# Altium footprint library PcbLib1.PcbLib: 7 footprints
Each footprint in its own frame and in the unit in brackets; x right, y up, seen from the top. Pads: shape width x height; smd on the part's side, far side on the other; paste and mask are expansions set on the pad; w line width, h text height; cw(c..) or ccw(c..) is an arc to the next point about the centre after c.
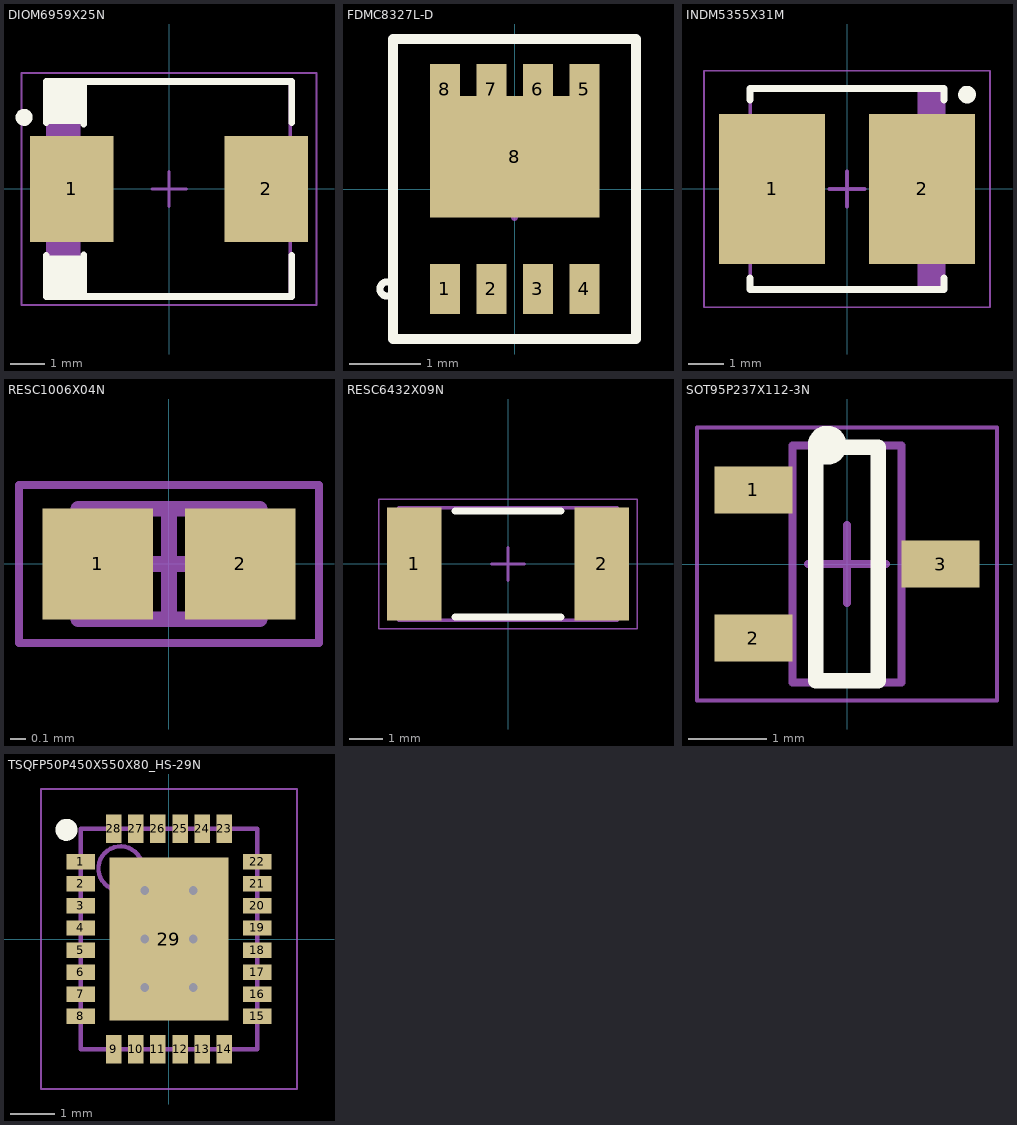
[diagram p0: the footprints below, top view; thin cyan lines are the x and y axes]

## DIOM6959X25N [mm] "Molded Diode, 2-Leads, Body 6,86x5,91mm, IPC Medium Density"
height 2.5
pads (2):
  rect 2.45x3.1 smd: 1(-2.85,0) 2(2.85,0)
Top Overlay:
  circle w0.25: c-4.25,2.1 r0.125
  rectangle: -3.6,-3.1 -2.5,-1.95
  rectangle: -3.6,1.9 -2.5,3.15
  lines w0.2: -3.6,-1.95 -3.6,-3.15 3.6,-3.15 3.6,-1.95 ; -3.6,1.95 -3.6,3.15 3.6,3.15 3.6,1.95 ; -2.5,-3.1 -2.5,-1.927 ; -2.5,1.9 -2.5,3.1
  text "K" at -3.2,-0.5 h2
Mechanical 13:
  rectangle: -3.555,-3.11 -2.599,3.11
  lines w0.1: -3.555,-3.11 3.555,-3.11 3.555,3.11 -3.555,3.11 -3.555,-3.11
Mechanical 15:
  lines w0.05: -4.325,-3.4 4.325,-3.4 4.325,3.4 -4.325,3.4 -4.325,-3.4
  lines w0.1: -0.5,0 0.5,0 ; 0,-0.5 0,0.5
3D body: height 2.5, standoff 0, extent -3.555,-3.11 3.555,3.11

## FDMC8327L-D [mm] "MLP 3.3x3.3"
pads (9):
  rect 0.42x0.7 smd: 1(-0.975,-1.4) 2(-0.325,-1.4) 3(0.325,-1.4) 4(0.975,-1.4) 5(0.975,1.4) 6(0.325,1.4) 7(-0.325,1.4) 8(-0.975,1.4)
  rect 2.37x1.7 smd: 8(0,0.45)
Top Overlay:
  lines w0.1: -1.696,-1.355 ccw(c-1.785,-1.4) -1.685,-1.4
  lines w0.14: -1.7,-2.1 -1.7,2.1 1.7,2.1 1.7,-2.1 -1.7,-2.1
Mechanical 15:
  lines w0.1: -0.4,0 0,0 ; 0,-0.4 0,0 ; 0,0.4 0,0 ; 0.4,0 0,0 ; -1.7,-2.1 1.7,-2.1 1.7,2.1 -1.7,2.1 -1.7,-2.1
3D body "FDMC8327L-D.STEP": height 0.75, standoff 0, extent -1.65,-1.7 1.65,1.6

## INDM5355X31M [mm] "Molded Inductor, 2-Leads, Body 5,28x5,48mm, IPC Low Density"
height 3.1
pads (2):
  rect 3x4.25 smd: 1(-2.125,0) 2(2.125,0)
Top Overlay:
  circle w0.25: c3.4,2.675 r0.125
  lines w0.2: -2.75,-2.525 -2.75,-2.85 2.75,-2.85 2.75,-2.525 ; -2.75,2.525 -2.75,2.85 2.75,2.85 2.75,2.525
Mechanical 13:
  rectangle: 2.003,-2.84 2.74,2.84
  lines w0.1: -2.74,-2.84 2.74,-2.84 2.74,2.84 -2.74,2.84 -2.74,-2.84
Mechanical 15:
  lines w0.05: -4.05,-3.35 4.05,-3.35 4.05,3.35 -4.05,3.35 -4.05,-3.35
  lines w0.1: -0.5,0 0.5,0 ; 0,-0.5 0,0.5
3D body "Coilcraft-XAL5030.step": height 3.11, standoff 0.01, extent -2.7,-2.84 2.78,2.84

## RESC1006X04N [mm] "Chip Resistor, 2-Leads, Body 1,00x0,55mm, IPC Medium Density"
height 0.4
pads (2):
  rect 0.7x0.7 smd: 1(-0.45,0) 2(0.45,0)
Mechanical 13:
  lines w0.1: -0.575,-0.35 -0.575,0.35 0.575,0.35 0.575,-0.35 -0.575,-0.35
Mechanical 15:
  lines w0.05: -0.95,-0.5 -0.95,0.5 0.95,0.5 0.95,-0.5 -0.95,-0.5
  lines w0.1: -0.35,0 0.35,0 ; 0,-0.35 0,0.35
3D body "SEI-CSS_CSSH.step": height 0.35, standoff 0, extent -0.497,-0.25 0.497,0.25

## RESC6432X09N [mm] "Chip Resistor, 2-Leads, Body 6,40x3,20mm, IPC Medium Density"
height 0.9
pads (2):
  rect 1.65x3.4 smd: 1(-2.825,0) 2(2.825,0)
Top Overlay:
  lines w0.2: -1.6,-1.6 1.6,-1.6 ; -1.6,1.6 1.6,1.6
Mechanical 13:
  lines w0.1: -3.3,-1.7 -3.3,1.7 3.3,1.7 3.3,-1.7 -3.3,-1.7
Mechanical 15:
  lines w0.05: -3.9,-1.95 -3.9,1.95 3.9,1.95 3.9,-1.95 -3.9,-1.95
  lines w0.1: -0.5,0 0.5,0 ; 0,-0.5 0,0.5
3D body "SEI-CSM.step": height 0.83, standoff 0, extent -3.175,-1.525 3.175,1.525

## SOT95P237X112-3N [mm] "SOT223, 3-Leads, Body 2,92x2,37mm (avg), Pitch 0,95mm, IPC Medium Density"
height 1.12
pads (3):
  rect 1x0.6 smd: 1(-1.2,0.95) 2(-1.2,-0.95) 3(1.2,0)
Top Overlay:
  circle w0.25: c-0.254,1.524 r0.125
  lines w0.2: -0.4,-1.5 0.4,-1.5 0.4,1.5 -0.4,1.5 -0.4,-1.5
Mechanical 13:
  lines w0.1: -0.7,-1.52 0.7,-1.52 0.7,1.52 -0.7,1.52 -0.7,-1.52
Mechanical 15:
  lines w0.05: -1.925,-1.75 1.925,-1.75 1.925,1.75 -1.925,1.75 -1.925,-1.75
  lines w0.1: -0.5,0 0.5,0 ; 0,-0.5 0,0.5
3D body "2n7002.stp": height 1, standoff 0, extent -1.1,-1.45 1.2,1.45

## TSQFP50P450X550X80_HS-29N [mm] "TSQFP, 28-Leads, Body 4,00x5,00mm, Pitch 0,50mm, Thermal Pad 2,70x3,70mm, IPC Medium Density"
height 0.8
pads (29):
  rect 0.65x0.35 smd: 1(-2,1.75) 2(-2,1.25) 3(-2,0.75) 4(-2,0.25) 5(-2,-0.25) 6(-2,-0.75) 7(-2,-1.25) 8(-2,-1.75) 15(2,-1.75) 16(2,-1.25) 17(2,-0.75) 18(2,-0.25) 19(2,0.25) 20(2,0.75) 21(2,1.25) 22(2,1.75)
  rect 0.35x0.65 smd: 9(-1.25,-2.5) 10(-0.75,-2.5) 11(-0.25,-2.5) 12(0.25,-2.5) 13(0.75,-2.5) 14(1.25,-2.5) 23(1.25,2.5) 24(0.75,2.5) 25(0.25,2.5) 26(-0.25,2.5) 27(-0.75,2.5) 28(-1.25,2.5)
  rect 2.7x3.7 smd: 29(0,0)
via -0.55,1.1 diameter 0.5 hole 0.2
via 0.55,1.1 diameter 0.5 hole 0.2
via -0.55,0 diameter 0.5 hole 0.2
via 0.55,0 diameter 0.5 hole 0.2
via -0.55,-1.1 diameter 0.5 hole 0.2
via 0.55,-1.1 diameter 0.5 hole 0.2
Top Overlay:
  circle w0.25: c-2.325,2.475 r0.125
Mechanical 13:
  circle w0.1: c-1.1,1.6 r0.5
  lines w0.1: -2,-2.5 -2,2.5 2,2.5 2,-2.5 -2,-2.5
Mechanical 15:
  lines w0.05: -2.9,-3.4 -2.9,3.4 2.9,3.4 2.9,-3.4 -2.9,-3.4
  lines w0.1: -0.5,0 0.5,0 ; 0,-0.5 0,0.5
3D body "LTC4162_S-1398197.step": height 0.75, standoff 0, extent -2.05,-2.55 2.05,2.55